# Altium footprint library IMTP Разное.PcbLib: 39 footprints (part 1 of 3)
Each footprint in its own frame and in the unit in brackets; x right, y up, seen from the top. Pads: shape width x height; smd on the part's side, far side on the other; paste and mask are expansions set on the pad; w line width, h text height; cw(c..) or ccw(c..) is an arc to the next point about the centre after c.
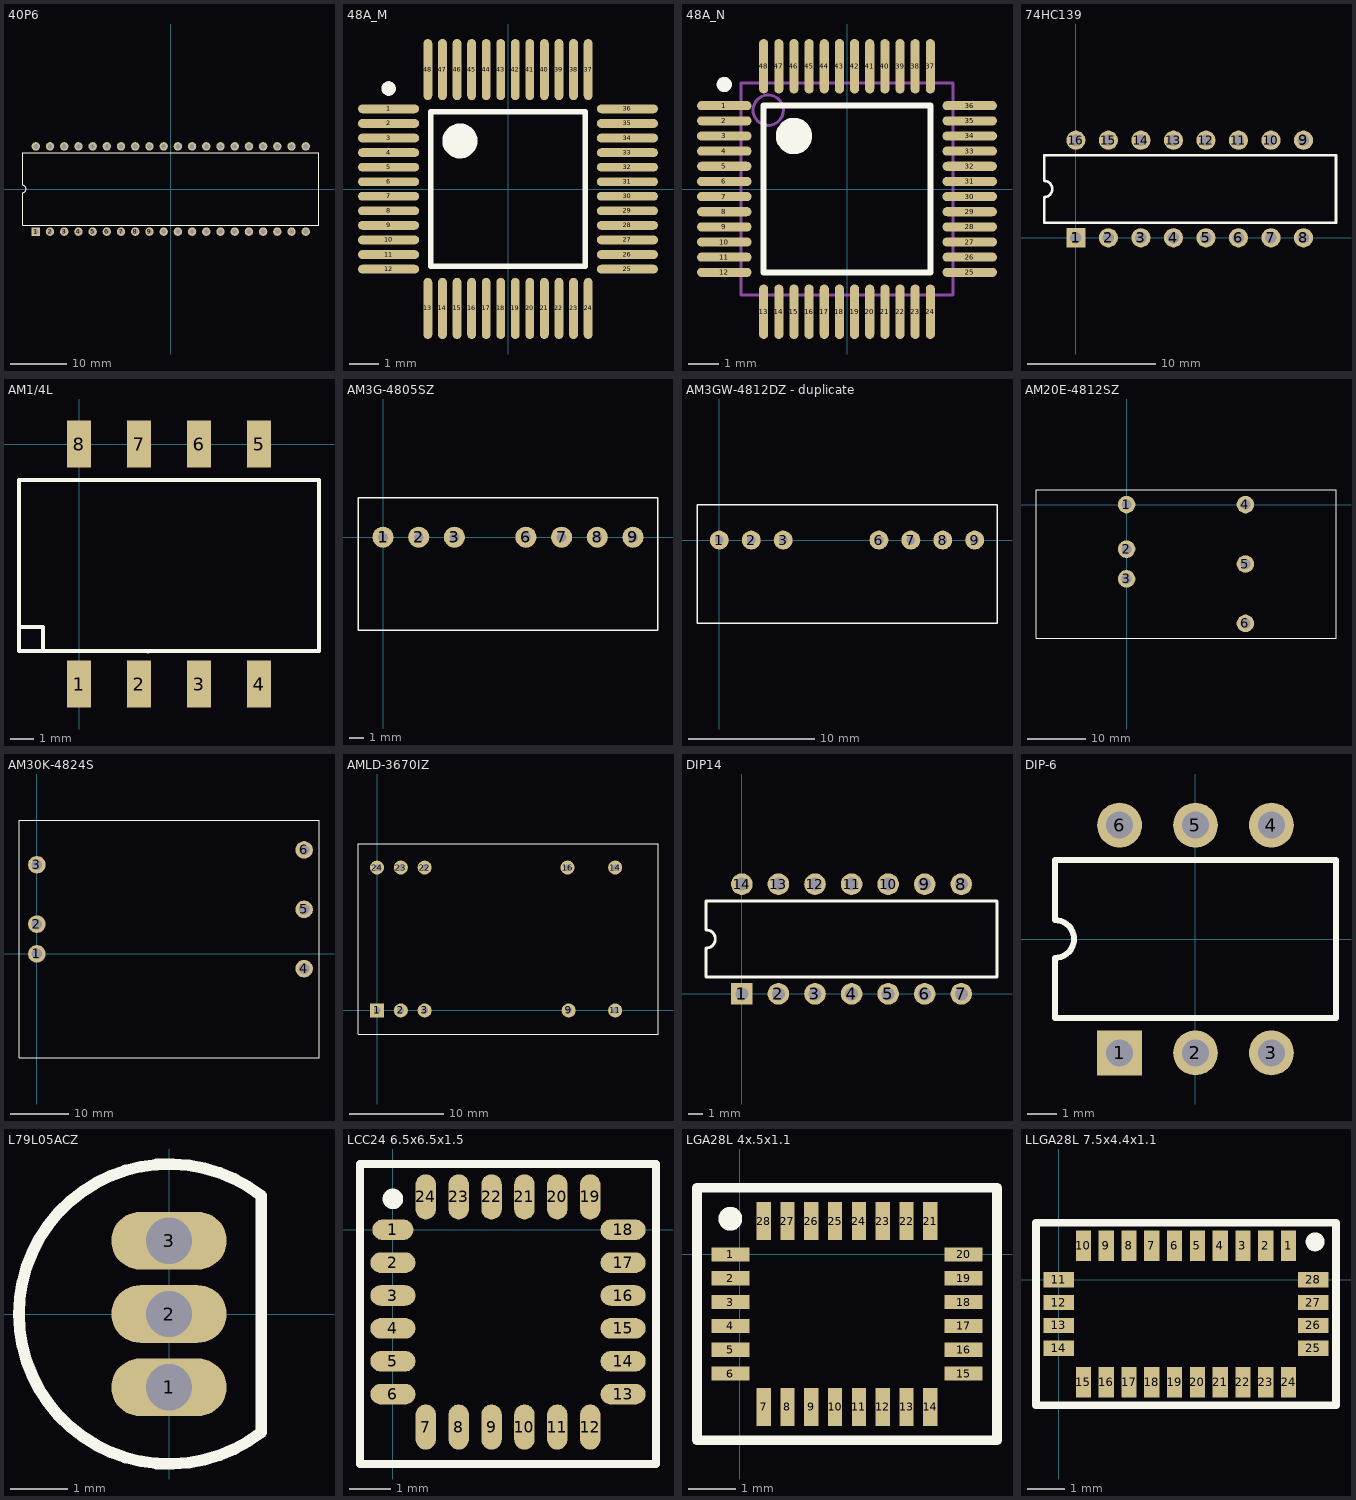
[diagram p0: the footprints below, top view; thin cyan lines are the x and y axes]

## 40P6 [mm] "DIP; 40 Leads; Row Spacing 15.24 mm; Pitch 2.54 mm"
height 5.59
pads (40):
  rect 1.5x1.5 hole 0.9: 1(-24.13,-7.62)
  round 1.5 hole 0.9: 2(-21.59,-7.62) 3(-19.05,-7.62) 4(-16.51,-7.62) 5(-13.97,-7.62) 6(-11.43,-7.62) 7(-8.89,-7.62) 8(-6.35,-7.62) 9(-3.81,-7.62) 10(-1.27,-7.62) 11(1.27,-7.62) 12(3.81,-7.62) 13(6.35,-7.62) 14(8.89,-7.62) 15(11.43,-7.62) 16(13.97,-7.62) 17(16.51,-7.62) 18(19.05,-7.62) 19(21.59,-7.62) 20(24.13,-7.62) 21(24.13,7.62) 22(21.59,7.62) 23(19.05,7.62) 24(16.51,7.62) 25(13.97,7.62) 26(11.43,7.62) 27(8.89,7.62) 28(6.35,7.62) 29(3.81,7.62) 30(1.27,7.62) 31(-1.27,7.62) 32(-3.81,7.62) 33(-6.35,7.62) 34(-8.89,7.62) 35(-11.43,7.62) 36(-13.97,7.62) 37(-16.51,7.62) 38(-19.05,7.62) 39(-21.59,7.62) 40(-24.13,7.62)
Top Overlay:
  lines w0.2: -26.5,-6.45 26.5,-6.45 26.5,6.45 -26.5,6.45 -26.5,0.635 cw(c-26.5,0) -26.5,-0.635 -26.5,-6.45

## 48A_M [mm] "Thin QFP, 48-Leads, Body 7x7mm, Pitch 0.5mm, IPC Low Density"
height 1.6
pads (48):
  oval 2.1x0.3 smd: 1(-4.1,2.75) 2(-4.1,2.25) 3(-4.1,1.75) 4(-4.1,1.25) 5(-4.1,0.75) 6(-4.1,0.25) 7(-4.1,-0.25) 8(-4.1,-0.75) 9(-4.1,-1.25) 10(-4.1,-1.75) 11(-4.1,-2.25) 12(-4.1,-2.75) 25(4.1,-2.75) 26(4.1,-2.25) 27(4.1,-1.75) 28(4.1,-1.25) 29(4.1,-0.75) 30(4.1,-0.25) 31(4.1,0.25) 32(4.1,0.75) 33(4.1,1.25) 34(4.1,1.75) 35(4.1,2.25) 36(4.1,2.75)
  oval 0.3x2.1 smd: 13(-2.75,-4.1) 14(-2.25,-4.1) 15(-1.75,-4.1) 16(-1.25,-4.1) 17(-0.75,-4.1) 18(-0.25,-4.1) 19(0.25,-4.1) 20(0.75,-4.1) 21(1.25,-4.1) 22(1.75,-4.1) 23(2.25,-4.1) 24(2.75,-4.1) 37(2.75,4.1) 38(2.25,4.1) 39(1.75,4.1) 40(1.25,4.1) 41(0.75,4.1) 42(0.25,4.1) 43(-0.25,4.1) 44(-0.75,4.1) 45(-1.25,4.1) 46(-1.75,4.1) 47(-2.25,4.1) 48(-2.75,4.1)
Top Overlay:
  circle w0.6: c-1.65,1.65 r0.3
  circle w0.25: c-4.1,3.45 r0.125
  lines w0.2: -2.65,-2.65 2.65,-2.65 2.65,2.65 -2.65,2.65 -2.65,-2.65
3D body: height 1.6, standoff 0, extent -3.5,-3.5 3.5,3.5

## 48A_N [mm] "Thin QFP, 48-Leads, Body 7x7mm, Pitch 0.5mm, IPC Medium Density"
height 1.6
pads (48):
  oval 1.8x0.3 smd: 1(-4.05,2.75) 2(-4.05,2.25) 3(-4.05,1.75) 4(-4.05,1.25) 5(-4.05,0.75) 6(-4.05,0.25) 7(-4.05,-0.25) 8(-4.05,-0.75) 9(-4.05,-1.25) 10(-4.05,-1.75) 11(-4.05,-2.25) 12(-4.05,-2.75) 25(4.05,-2.75) 26(4.05,-2.25) 27(4.05,-1.75) 28(4.05,-1.25) 29(4.05,-0.75) 30(4.05,-0.25) 31(4.05,0.25) 32(4.05,0.75) 33(4.05,1.25) 34(4.05,1.75) 35(4.05,2.25) 36(4.05,2.75)
  oval 0.3x1.8 smd: 13(-2.75,-4.05) 14(-2.25,-4.05) 15(-1.75,-4.05) 16(-1.25,-4.05) 17(-0.75,-4.05) 18(-0.25,-4.05) 19(0.25,-4.05) 20(0.75,-4.05) 21(1.25,-4.05) 22(1.75,-4.05) 23(2.25,-4.05) 24(2.75,-4.05) 37(2.75,4.05) 38(2.25,4.05) 39(1.75,4.05) 40(1.25,4.05) 41(0.75,4.05) 42(0.25,4.05) 43(-0.25,4.05) 44(-0.75,4.05) 45(-1.25,4.05) 46(-1.75,4.05) 47(-2.25,4.05) 48(-2.75,4.05)
Top Overlay:
  circle w0.6: c-1.75,1.75 r0.3
  circle w0.25: c-4.05,3.45 r0.125
  lines w0.2: -2.75,-2.75 2.75,-2.75 2.75,2.75 -2.75,2.75 -2.75,-2.75
Mechanical 13:
  circle w0.1: c-2.6,2.6 r0.5
  lines w0.1: -3.5,-3.5 3.5,-3.5 3.5,3.5 -3.5,3.5 -3.5,-3.5
3D body: height 1.6, standoff 0, extent -3.5,-3.5 3.5,3.5

## 74HC139 [mm] "димультиплексор"
height 10
pads (16):
  rect 1.5x1.5 hole 0.9: 1(0,0)
  round 1.5 hole 0.9: 2(2.54,0) 3(5.08,0) 4(7.62,0) 5(10.16,0) 6(12.7,0) 7(15.24,0) 8(17.78,0) 9(17.78,7.62) 10(15.24,7.62) 11(12.7,7.62) 12(10.16,7.62) 13(7.62,7.62) 14(5.08,7.62) 15(2.54,7.62) 16(0,7.62)
Top Overlay:
  lines w0.2: -2.48,1.16 20.32,1.16 20.32,6.46 -2.48,6.46 -2.48,4.445 cw(c-2.48,3.81) -2.48,3.175 -2.48,1.16
3D body: height 3.61, standoff -3.37, extent -1.905,-0.127 17.145,7.873

## AM1/4L [mm]
height 11
pads (8):
  rect 1x2 smd: 1(0,-10.16) 2(2.54,-10.16) 3(5.08,-10.16) 4(7.62,-10.16) 5(7.62,0) 6(5.08,0) 7(2.54,0) 8(0,0)
Top Overlay:
  lines w0.15: -2.54,-7.747 -1.524,-7.747 -1.524,-8.738 ; -2.54,-8.763 -2.54,-1.524 10.16,-1.524 10.16,-8.763 -2.54,-8.763
Mechanical 3:
  lines w0.15: -0.381,-10.287 0.356,-10.287 ; -0.381,0.152 0.356,0.152 ; 2.159,-10.287 2.921,-10.287 ; 2.159,0.127 2.896,0.127 ; 2.896,-8.788 2.921,-8.814 ; 4.699,-10.312 5.486,-10.312 ; 4.699,0.127 5.461,0.127 ; 7.239,0.127 8.001,0.127 ; 7.264,-10.312 8.001,-10.312
3D body: height 6, standoff 0, extent -2.54,-8.763 10.16,-1.524
3D body: height 1, standoff 0, extent -0.381,-1.651 0.356,0.152
3D body: height 1, standoff 0, extent 2.159,-1.651 2.896,0.152
3D body: height 1, standoff 0, extent 4.699,-1.651 5.436,0.152
3D body: height 1, standoff 0, extent 7.239,-1.651 7.976,0.152
3D body: height 1, standoff 0, extent 7.264,-10.439 8.001,-8.636
3D body: height 1, standoff 0, extent 4.724,-10.439 5.461,-8.636
3D body: height 1, standoff 0, extent 2.184,-10.439 2.921,-8.636
3D body: height 1, standoff 0, extent -0.381,-10.439 0.356,-8.636

## AM3G-4805SZ [mm]
pads (7):
  round 1.5 hole 0.7: 1(0,0) 2(2.54,0) 3(5.08,0) 6(10.16,0) 7(12.7,0) 8(15.24,0) 9(17.78,0)
Top Overlay:
  lines w0.1: -1.778,-6.604 -1.778,2.794 19.558,2.794 19.558,-6.604 -1.778,-6.604
3D body: height 11.2, standoff 0.1, extent -1.778,-6.604 19.558,2.794
3D body: height 0, standoff -4, extent 2.286,-0.254 2.784,0.245
3D body: height 0, standoff -4, extent 4.826,-0.254 5.324,0.245
3D body: height 0, standoff -4, extent 9.906,-0.25 10.404,0.25
3D body: height 0, standoff -4, extent 12.451,-0.254 12.949,0.245
3D body: height 0, standoff -4, extent 14.991,-0.254 15.489,0.245
3D body: height 0, standoff -4, extent 17.536,-0.25 18.034,0.25
3D body: height 0, standoff -4, extent -0.254,-0.254 0.244,0.245

## AM3GW-4812DZ - duplicate [mm]
pads (7):
  round 1.5 hole 0.7: 1(0,0) 2(2.54,0) 3(5.08,0) 6(12.7,0) 7(15.24,0) 8(17.78,0) 9(20.32,0)
Top Overlay:
  lines w0.1: -1.778,-6.604 -1.778,2.794 22.098,2.794 22.098,-6.604 -1.778,-6.604
3D body: height 0, standoff -4, extent -0.254,-0.254 0.244,0.245
3D body: height 0, standoff -4, extent 20.066,-0.254 20.564,0.245
3D body: height 0, standoff -4, extent 17.526,-0.254 18.024,0.245
3D body: height 0, standoff -4, extent 14.986,-0.254 15.484,0.245
3D body: height 0, standoff -4, extent 12.446,-0.254 12.944,0.245
3D body: height 0, standoff -4, extent 4.826,-0.254 5.324,0.245
3D body: height 0, standoff -4, extent 2.286,-0.254 2.784,0.245
3D body: height 12.5, standoff 0.1, extent -1.778,-6.604 22.098,2.794

## AM20E-4812SZ [mm]
pads (6):
  round 3 hole 1.75: 1(0,0) 2(0,-7.62) 3(0,-12.7) 4(20.32,0) 5(20.32,-10.16) 6(20.32,-20.32)
Top Overlay:
  lines w0.1: -15.494,-22.86 35.814,-22.86 35.814,2.54 -15.494,2.54 -15.494,-22.86
3D body: height 5.08, standoff 0, extent -0.732,-13.449 0.762,-11.951
3D body: height 5.08, standoff 0, extent -0.747,-8.355 0.747,-6.858
3D body: height 5.8, standoff 0, extent 19.588,-0.749 21.082,0.749
3D body: height 5.08, standoff 0, extent -0.762,-0.749 0.732,0.749
3D body: height 5.08, standoff 0, extent 19.558,-10.909 21.052,-9.411
3D body: height 5.08, standoff 0, extent 19.573,-21.055 21.067,-19.558
3D body: height 10.16, standoff -0.1, extent -15.494,-22.86 35.814,2.54

## AM30K-4824S [mm]
pads (6):
  round 3 hole 1.75: 1(0,0) 2(0,5.08) 3(0,15.24) 4(45.72,-2.54) 5(45.72,7.62) 6(45.72,17.78)
Top Overlay:
  lines w0.1: -3.048,-17.78 48.26,-17.78 48.26,22.86 -3.048,22.86 -3.048,-17.78
3D body: height 11.5, standoff -0.1, extent -3.048,-17.78 48.26,22.86
3D body: height 4.1, standoff 0, extent 44.988,-3.289 46.482,-1.791
3D body: height 4.1, standoff 0, extent 44.973,6.858 46.467,8.355
3D body: height 4.1, standoff 0, extent -0.732,14.491 0.762,15.989
3D body: height 4.1, standoff 0, extent 44.958,17.031 46.452,18.529
3D body: height 4.1, standoff 0, extent -0.762,4.331 0.732,5.829
3D body: height 4.1, standoff 0, extent -0.762,-0.749 0.732,0.749

## AMLD-3670IZ [mm]
height 10.2
pads (10):
  rect 1.5x1.5 hole 0.7: 1(0,0)
  round 1.5 hole 0.7: 2(2.54,0) 3(5.08,0) 9(20.447,0) 11(25.4,0) 14(25.4,15.24) 16(20.32,15.24) 22(5.08,15.24) 23(2.54,15.24) 24(0,15.24)
Top Overlay:
  lines w0.1: -2.032,-2.54 29.972,-2.54 29.972,17.78 -2.032,17.78 -2.032,-2.54
3D body: height -0.2, standoff -4, extent -0.254,14.986 0.244,15.485
3D body: height -0.2, standoff -4, extent 2.286,14.986 2.784,15.485
3D body: height -0.2, standoff -4, extent 4.826,14.986 5.324,15.485
3D body: height -0.2, standoff -4, extent 20.076,14.99 20.574,15.49
3D body: height -0.2, standoff -4, extent 25.156,14.99 25.654,15.49
3D body: height -0.2, standoff -4, extent 25.146,-0.254 25.644,0.245
3D body: height -0.2, standoff -4, extent 20.193,-0.254 20.691,0.245
3D body: height -0.2, standoff -4, extent 4.826,-0.254 5.324,0.245
3D body: height -0.2, standoff -4, extent 2.286,-0.254 2.784,0.245
3D body: height 10.2, standoff 0.1, extent -2.032,-2.54 29.972,17.78
3D body: height -0.2, standoff -4, extent -0.254,-0.254 0.244,0.245

## DIP14 [mm]
pads (14):
  rect 1.5x1.5 hole 0.9: 1(0,0)
  round 1.5 hole 0.9: 2(2.54,0) 3(5.08,0) 4(7.62,0) 5(10.16,0) 6(12.7,0) 7(15.24,0) 8(15.24,7.62) 9(12.7,7.62) 10(10.16,7.62) 11(7.62,7.62) 12(5.08,7.62) 13(2.54,7.62) 14(0,7.62)
Top Overlay:
  lines w0.2: -2.48,1.16 17.72,1.16 17.72,6.46 -2.48,6.46 -2.48,4.445 cw(c-2.48,3.81) -2.48,3.175 -2.48,1.16
3D body: height 3.61, standoff -3.37, extent -1.905,-0.127 17.145,7.873

## DIP-6 [mm] "DIP; 6 Leads; Row Spacing 7.62 mm; Pitch 2.54 mm"
height 5.46
pads (6):
  rect 1.5x1.5 hole 0.9: 1(-2.54,-3.81)
  round 1.5 hole 0.9: 2(0,-3.81) 3(2.54,-3.81) 4(2.54,3.81) 5(0,3.81) 6(-2.54,3.81)
Top Overlay:
  lines w0.2: -4.7,-2.65 4.7,-2.65 4.7,2.65 -4.7,2.65 -4.7,0.635 cw(c-4.7,0) -4.7,-0.635 -4.7,-2.65
3D body: height 4.31, standoff -3.28, extent -4.04,-4 4.04,4

## L79L05ACZ [mm]
height 5.33
pads (3):
  oval 2x1 hole 0.8: 1(0,-1.27) 2(0,0) 3(0,1.27)
Top Overlay:
  lines w0.2: 1.601,-2.049 cw(c0,0) 1.601,2.049 ; 1.6,-1.99 1.6,1.99
3D body: height 10.31, standoff -5.8, extent -3.048,-3.152 1.762,3.048

## LCC24 6.5x6.5x1.5 [mm]
height 1.5
pads (24):
  oval 1x0.5 smd: 1(0,0)
  oval 1.1x0.5 smd: 2(0,-0.8) 3(0,-1.6) 4(0,-2.4) 5(0,-3.2) 6(0,-4) 13(5.6,-4) 14(5.6,-3.2) 15(5.6,-2.4) 16(5.6,-1.6) 17(5.6,-0.8) 18(5.6,0)
  oval 0.5x1.1 smd: 7(0.8,-4.8) 8(1.6,-4.8) 9(2.4,-4.8) 10(3.2,-4.8) 11(4,-4.8) 12(4.8,-4.8) 19(4.8,0.8) 20(4,0.8) 21(3.2,0.8) 22(2.4,0.8) 23(1.6,0.8) 24(0.8,0.8)
Top Overlay:
  circle w0.25: c0,0.75 r0.125
  lines w0.2: -0.8,-5.7 6.4,-5.7 6.4,1.6 -0.8,1.6 -0.8,-5.7
3D body: height 1.5, standoff 0, extent -0.8,-5.7 6.4,1.6

## LGA28L 4x.5x1.1 [mm]
height 1.1
pads (28):
  rect 0.8x0.3 smd: 1(-0.2,0) 2(-0.2,-0.5) 3(-0.2,-1) 4(-0.2,-1.5) 5(-0.2,-2) 6(-0.2,-2.5) 15(4.7,-2.5) 16(4.7,-2) 17(4.7,-1.5) 18(4.7,-1) 19(4.7,-0.5) 20(4.7,0)
  rect 0.3x0.8 smd: 7(0.5,-3.2) 8(1,-3.2) 9(1.5,-3.2) 10(2,-3.2) 11(2.5,-3.2) 12(3,-3.2) 13(3.5,-3.2) 14(4,-3.2) 21(4,0.7) 22(3.5,0.7) 23(3,0.7) 24(2.5,0.7) 25(2,0.7) 26(1.5,0.7) 27(1,0.7) 28(0.5,0.7)
Top Overlay:
  circle w0.25: c-0.2,0.75 r0.125
  lines w0.2: -0.9,-3.9 5.4,-3.9 5.4,1.4 -0.9,1.4 -0.9,-3.9
3D body: height 1.1, standoff 0, extent -0.9,-3.9 5.4,1.4

## LLGA28L 7.5x4.4x1.1 [mm]
height 1.1
pads (28):
  rect 0.4x0.8 smd: 1(6.05,0.9) 2(5.45,0.9) 3(4.85,0.9) 4(4.25,0.9) 5(3.65,0.9) 6(3.05,0.9) 7(2.45,0.9) 8(1.85,0.9) 9(1.25,0.9) 10(0.65,0.9) 15(0.65,-2.7) 16(1.25,-2.7) 17(1.85,-2.7) 18(2.45,-2.7) 19(3.05,-2.7) 20(3.65,-2.7) 21(4.25,-2.7) 22(4.85,-2.7) 23(5.45,-2.7) 24(6.05,-2.7)
  rect 0.8x0.4 smd: 11(0,0) 12(0,-0.6) 13(0,-1.2) 14(0,-1.8) 25(6.7,-1.8) 26(6.7,-1.2) 27(6.7,-0.6) 28(6.7,0)
Top Overlay:
  circle w0.25: c6.75,1 r0.125
  lines w0.2: -0.6,-3.3 -0.6,1.5 7.3,1.5 7.3,-3.3 -0.6,-3.3
3D body: height 1.1, standoff 0, extent -0.6,-3.3 7.3,1.5